# EAGLE library part PCA21125 (library nxp_60_1_1)
SPI-bus Real-Time Clock and calendar The PCA21125 is a CMOS1 Real-Time Clock (RTC) and calendar optimized for low-power consumption and an operating temperature up to 125 °C. Data is transferred via a Serial Peripheral Interface (SPI-bus) with a maximum data rate of 6.0 Mbit/s. Alarm and timer functions are also available with the possibility to generate a wake-up signal on the interrupt pin. AEC Q100 compliant for automotive applications. AAL Eindhoven MK
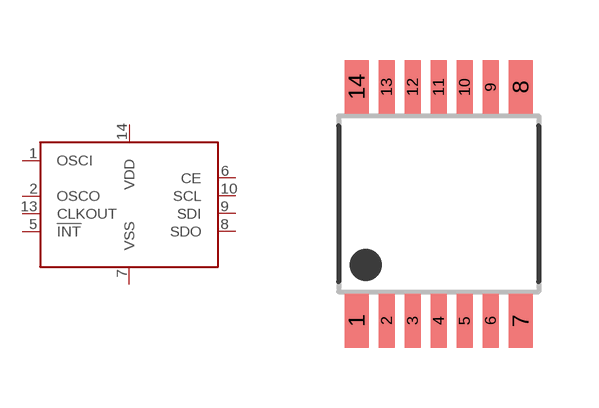
[diagram p118: symbol with the pads of SOT402-1; footprint SOT402-1]

Designator prefix U

## PCA21125T  [SOT402-1]
1  OSCI  pas
2  OSCO  pas
5  !INT  out
6  CE  in
7  VSS  pwr
8  SDO  out
9  SDI  in
10  SCL  in
13  CLKOUT  out
14  VDD  pwr

## Footprint SOT402-1 (pad centres in mm)
SOT402-1 TSSOP14: plastic thin shrink small outline package; 14 leads; body width 4.4 mm JEDEC: MO-153 IEC: ---
smd 0.6 x 1.35: 1 -2.05,-2.925; 7 2.05,-2.925; 8 2.05,2.925; 14 -2.05,2.925
smd 0.4 x 1.35: 2 -1.3,-2.925; 3 -0.65,-2.925; 4 0,-2.925; 5 0.65,-2.925; 6 1.3,-2.925; 9 1.3,2.925; 10 0.65,2.925; 11 0,2.925; 12 -0.65,2.925; 13 -1.3,2.925